# EAGLE library part MOLEX_SLIMSTACK_64_ELECTRODE (library RHD2000)
Molex 64-pin SlimStack connector (electrode side) (DigiKey WM24084-ND)
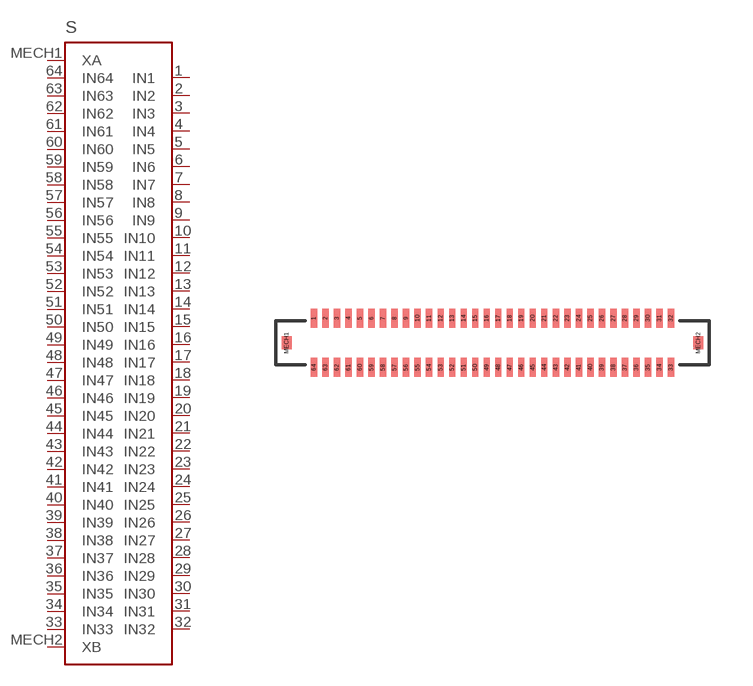
[diagram p8: symbol with the pads of MOLEX_SLIMSTACK_64_ELECTRODE; footprint MOLEX_SLIMSTACK_64_ELECTRODE]

Designator prefix S

## MOLEX_SLIMSTACK_64_ELECTRODE  [MOLEX_SLIMSTACK_64_ELECTRODE]
1  IN1
2  IN2
3  IN3
4  IN4
5  IN5
6  IN6
7  IN7
8  IN8
9  IN9
10  IN10
11  IN11
12  IN12
13  IN13
14  IN14
15  IN15
16  IN16
17  IN17
18  IN18
19  IN19
20  IN20
21  IN21
22  IN22
23  IN23
24  IN24
25  IN25
26  IN26
27  IN27
28  IN28
29  IN29
30  IN30
31  IN31
32  IN32
33  IN33
34  IN34
35  IN35
36  IN36
37  IN37
38  IN38
39  IN39
40  IN40
41  IN41
42  IN42
43  IN43
44  IN44
45  IN45
46  IN46
47  IN47
48  IN48
49  IN49
50  IN50
51  IN51
52  IN52
53  IN53
54  IN54
55  IN55
56  IN56
57  IN57
58  IN58
59  IN59
60  IN60
61  IN61
62  IN62
63  IN63
64  IN64
MECH1  XA  pas
MECH2  XB  pas

## Footprint MOLEX_SLIMSTACK_64_ELECTRODE (pad centres in mm)
Molex 64-pin SlimStack connector (electrode side): DigiKey WM24084-ND
smd 0.22 x 0.66: 1 -6.2,0.855; 2 -5.8,0.855; 3 -5.4,0.855; 4 -5,0.855; 5 -4.6,0.855; 6 -4.2,0.855; 7 -3.8,0.855; 8 -3.4,0.855; 9 -3,0.855; 10 -2.6,0.855; 11 -2.2,0.855; 12 -1.8,0.855; 13 -1.4,0.855; 14 -1,0.855; 15 -0.6,0.855; 16 -0.2,0.855; 17 0.2,0.855; 18 0.6,0.855; 19 1,0.855; 20 1.4,0.855; 21 1.8,0.855; 22 2.2,0.855; 23 2.6,0.855; 24 3,0.855; 25 3.4,0.855; 26 3.8,0.855; 27 4.2,0.855; 28 4.6,0.855; 29 5,0.855; 30 5.4,0.855; 31 5.8,0.855; 32 6.2,0.855; 33 6.2,-0.855; 34 5.8,-0.855; 35 5.4,-0.855; 36 5,-0.855; 37 4.6,-0.855; 38 4.2,-0.855; 39 3.8,-0.855; 40 3.4,-0.855; 41 3,-0.855; 42 2.6,-0.855; 43 2.2,-0.855; 44 1.8,-0.855; 45 1.4,-0.855; 46 1,-0.855; 47 0.6,-0.855; 48 0.2,-0.855; 49 -0.2,-0.855; 50 -0.6,-0.855; 51 -1,-0.855; 52 -1.4,-0.855; 53 -1.8,-0.855; 54 -2.2,-0.855; 55 -2.6,-0.855; 56 -3,-0.855; 57 -3.4,-0.855; 58 -3.8,-0.855; 59 -4.2,-0.855; 60 -4.6,-0.855; 61 -5,-0.855; 62 -5.4,-0.855; 63 -5.8,-0.855; 64 -6.2,-0.855
smd 0.35 x 0.44: MECH1 -7.15,0; MECH2 7.15,0